# Altium integrated library BC857.IntLib: 1 symbol
Pins are listed as number, name and electrical type; pins without a type are passive.

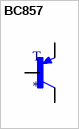
[diagram p0: symbol BC857]

## BC857
designator T
Transistor PNP BC857 PHILIPS Ampere=1 V=30 SO; MF: Nexperia USA; Package: SOT-23 NXP Semiconductors; Value: *; Price: None; MP: BC857; SnapEDA_Link: https://www.snapeda.com/parts/BC857/Nexperia%20USA%20Inc./view-part/53064/?ref=snap; Availability: Unavailable
footprint SOT23-BEC
pins: B, C, E